# EAGLE library part SWITCH-DPDT-SMT-VERT (library FlashPCB_Switches)
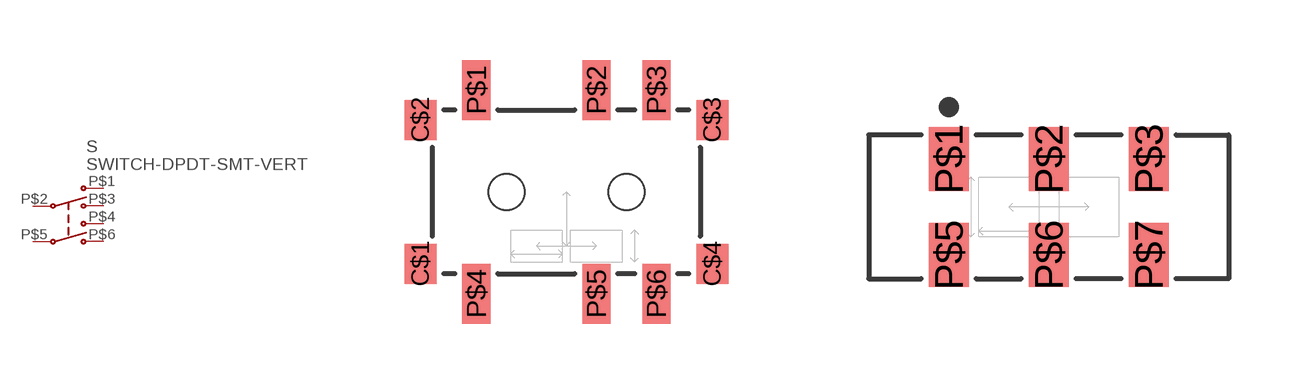
[diagram p4: symbol with the pads of SWITCH-SLIDE-SMT-VERT-DPDT-CUS-22B; footprints SWITCH-SLIDE-SMT-VERT-DPDT-CUS-22B, SWITCH-SLIDE-SMT-VERT-DPDT-JS202011JCQN]

Designator prefix S

## SWITCH-DPDT-SMT-VERTCUS-22B  [SWITCH-SLIDE-SMT-VERT-DPDT-CUS-22B]
P$1  P$2
P$2  P$1
P$3  P$3
P$4  P$5
P$5  P$4
P$6  P$6

## SWITCH-DPDT-SMT-VERTJS202011JCQN  [SWITCH-SLIDE-SMT-VERT-DPDT-JS202011JCQN]
P$1  P$2
P$2  P$1
P$3  P$3
P$5  P$5
P$6  P$4
P$7  P$6

## SWITCH-DPDT-SMT-VERTJS202011SCQN  [SWITCH-SLIDE-SMT-VERT-DPDT-JS202011SCQN]
Pads as for SWITCH-SLIDE-SMT-VERT-DPDT-CUS-22B

## Footprint SWITCH-SLIDE-SMT-VERT-DPDT-CUS-22B (pad centres in mm)
smd 0.8 x 1: C$1 -3.65,-1.8; C$2 -3.65,1.8; C$3 3.65,1.8; C$4 3.65,-1.8
smd 0.7 x 1.5: P$1 -2.25,2.55; P$2 0.75,2.55; P$3 2.25,2.55; P$4 -2.25,-2.55; P$5 0.75,-2.55; P$6 2.25,-2.55
hole 0.9 at -1.5,0
hole 0.9 at 1.5,0

## Footprint SWITCH-SLIDE-SMT-VERT-DPDT-JS202011JCQN (pad centres in mm)
smd 1 x 1.6: P$1 -2.5,1.2; P$2 0,1.2; P$3 2.5,1.2; P$5 -2.5,-1.2; P$6 0,-1.2; P$7 2.5,-1.2

## Footprint SWITCH-SLIDE-SMT-VERT-DPDT-JS202011SCQN (pad centres in mm)
smd 1.2 x 2.5: P$1 -2.5,-2.75; P$2 0,-2.75; P$3 2.5,-2.75; P$4 -2.5,2.75; P$5 0,2.75; P$6 2.5,2.75